# EAGLE library part INA126EA_2K5 (library INA126EA_2K5)
Micropower Instrumentation Amplifier Single and Dual Versions Source: Datasheet <http://www.ti.com/lit/gpn/INA126>
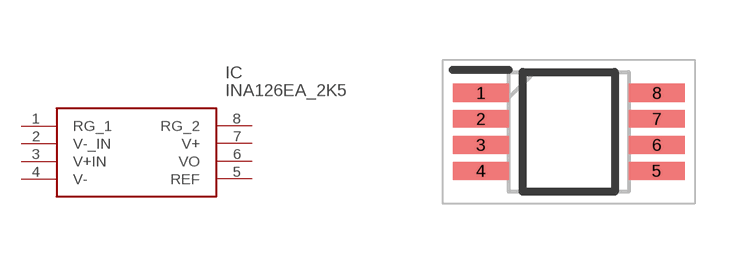
[diagram p0: symbol with the pads of SOP65P490X110-8N; footprint SOP65P490X110-8N]

Designator prefix IC

## INA126EA_2K5 (Arrow_Part_Number: INA126EA/2K5; Arrow_Price-Stock: https://www.arrow.com/en/products/ina126ea2k5/texas-instruments; Description: Micropower Instrumentation Amplifier Single and Dual Versions; Height: 1.1mm; Manufacturer_Name: Texas Instruments; Manufacturer_Part_Number: INA126EA/2K5; Mouser_Part_Number: 595-INA126EA/2K5; Mouser_Price-Stock: https://www.mouser.co.uk/ProductDetail/Texas-Instruments/INA126EA-2K5/?qs=VBduBm9rCJSYx1fsyzaOGQ%3D%3D)  [SOP65P490X110-8N]
1  RG_1
2  V-_IN
3  V+IN
4  V-
5  REF
6  VO
7  V+
8  RG_2

## Footprint SOP65P490X110-8N (pad centres in mm)
DGK (S-PDSO-G8)
smd 1.4 x 0.45: 1 -2.2,0.975; 2 -2.2,0.325; 3 -2.2,-0.325; 4 -2.2,-0.975; 5 2.2,-0.975; 6 2.2,-0.325; 7 2.2,0.325; 8 2.2,0.975